# Altium integrated library Red_LED.IntLib: 1 symbol
Pins are listed as number, name and electrical type; pins without a type are passive.

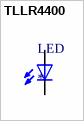
[diagram p0: symbol TLLR4400]

## TLLR4400
designator LED
Red 619nm LED Indication - Discrete 1.9V Radial; MF: Vishay; MP: TLLR4400; Package: Radial Vishay Semiconductor; Value: *; Price: None; Availability: Unavailable; SnapEDA_Link: https://www.snapeda.com/parts/TLLR4400/Vishay%20Semiconductor%20Opto%20Division/view-part/557946/?ref=snap
footprint LED3MM
pins: A, K C